# Altium footprint library Micro-Fit_2x01P.PcbLib: 1 footprints
Each footprint in its own frame and in the unit in brackets; x right, y up, seen from the top. Pads: shape width x height; smd on the part's side, far side on the other; paste and mask are expansions set on the pad; w line width, h text height; cw(c..) or ccw(c..) is an arc to the next point about the centre after c.
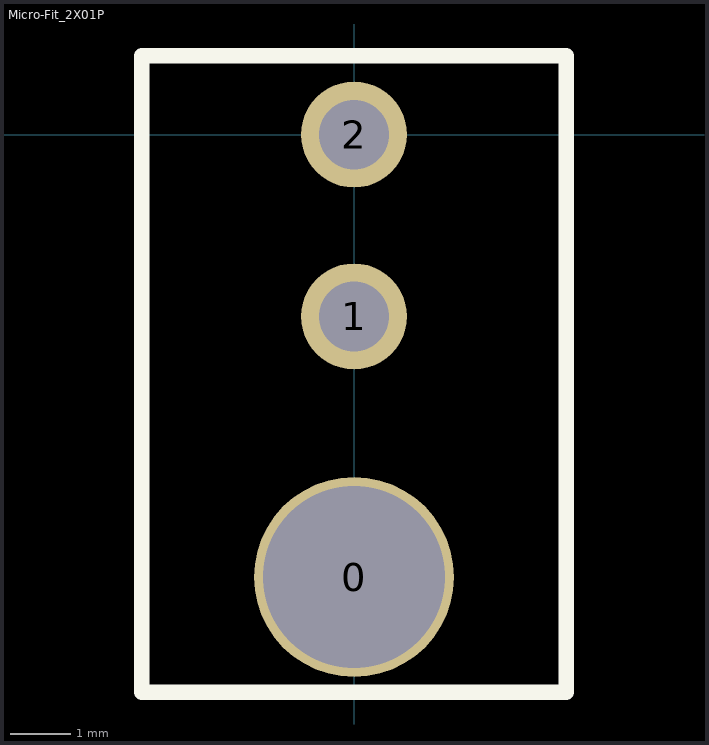
[diagram p0: the footprint, top view; thin cyan lines are the x and y axes]

## Micro-Fit_2X01P [mm]
pads (3):
  round 3.3 hole 3: 0(0,-7.3)
  round 1.75 hole 1.15: 1(0,-3) 2(0,0)
Top Overlay:
  lines w0.254: -3.5,-9.2 -3.5,1.3 3.5,1.3 3.5,-9.2 -3.5,-9.2
3D body: height 7.35, standoff 0, extent -3.325,-11.9 3.325,-2.15
3D body: height 3.55, standoff -7.58, extent 4.5,2.1 4.5,2.1
3D body: height 6, standoff 5, extent -0.413,-2.95 0.413,0.375
3D body: height 5.1, standoff -2, extent -0.413,-0.325 0.412,0.375
3D body: height 5.1, standoff -2, extent -0.413,-3.325 0.412,-2.625
3D body: height 2, standoff -2, extent -1.389,-8.697 1.4,-5.903